# EAGLE library part MCP3201_MCP3201-CI/SN (library MeRCIS Lab Parts)
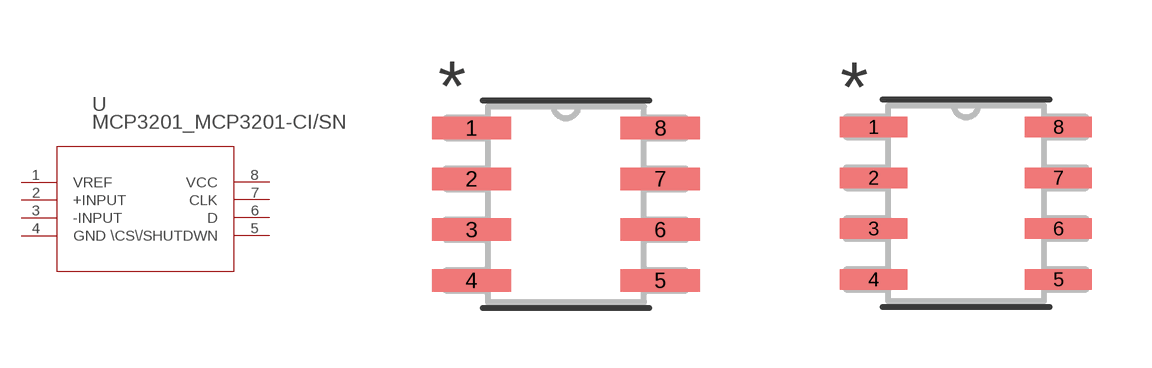
[diagram p9: symbol with the pads of MCP3201_SOIC8-N_MC; footprints MCP3201_SOIC8-N_MC, MCP3201_SOIC8-N_MC-L]

Designator prefix U

## MCP3201_MCP3201-CI/SN (MANUFACTURER_PART_NUMBER: MCP3201CISN; VENDOR: Microchip)  [MCP3201_SOIC8-N_MC]
1  VREF  pas
2  +INPUT  pas
3  -INPUT  pas
4  GND  pas
5  \CS\/SHUTDWN  pas
6  D  pas
7  CLK  pas
8  VCC  pas

## MCP3201_MCP3201-CI/SNSOIC8-N_MC-L (MANUFACTURER_PART_NUMBER: MCP3201CISN; VENDOR: Microchip)  [MCP3201_SOIC8-N_MC-L]
Pads as for MCP3201_SOIC8-N_MC

## MCP3201_MCP3201-CI/SNSOIC8-N_MC-M (MANUFACTURER_PART_NUMBER: MCP3201CISN; VENDOR: Microchip)  [MCP3201_SOIC8-N_MC-M]
Pads as for MCP3201_SOIC8-N_MC

## Footprint MCP3201_SOIC8-N_MC (pad centres in mm)
smd 1.981 x 0.559: 1 -2.362,1.905; 2 -2.362,0.635; 3 -2.362,-0.635; 4 -2.362,-1.905; 5 2.362,-1.905; 6 2.362,-0.635; 7 2.362,0.635; 8 2.362,1.905

## Footprint MCP3201_SOIC8-N_MC-L (pad centres in mm)
smd 1.676 x 0.508: 1 -2.311,1.905; 2 -2.311,0.635; 3 -2.311,-0.635; 4 -2.311,-1.905; 5 2.311,-1.905; 6 2.311,-0.635; 7 2.311,0.635; 8 2.311,1.905

## Footprint MCP3201_SOIC8-N_MC-M (pad centres in mm)
smd 2.286 x 0.61: 1 -2.413,1.905; 2 -2.413,0.635; 3 -2.413,-0.635; 4 -2.413,-1.905; 5 2.413,-1.905; 6 2.413,-0.635; 7 2.413,0.635; 8 2.413,1.905